# Altium schematic symbol library AH372-P-B.SchLib: 1 symbol
Pins are listed as number, name and electrical type; pins without a type are passive.

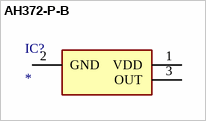
[diagram p0: symbol AH372-P-B]

## AH372-P-B
designator IC?
Integrated Circuit; Manufacturer_Name: Diodes Inc.; Manufacturer_Part_Number: AH372-P-B; Description: DiodesZetex AH372-P-B; Datasheet Link: https://www.mouser.com/datasheet/2/115/AH372-1317530.pdf; Height: 4.75mm; Mouser Part Number: 621-AH372-P-B; Mouser Price/Stock: https://www.mouser.com/Search/Refine.aspx?Keyword=621-AH372-P-B; RS Part Number: 1333361P; RS Price/Stock: http://uk.rs-online.com/web/p/products/1333361P
footprint AH372PB
pins: 1 VDD, 2 GND, 3 OUT